# Altium schematic symbol library Symbols.SchLib: 35 symbols
Pins are listed as number, name and electrical type; pins without a type are passive.

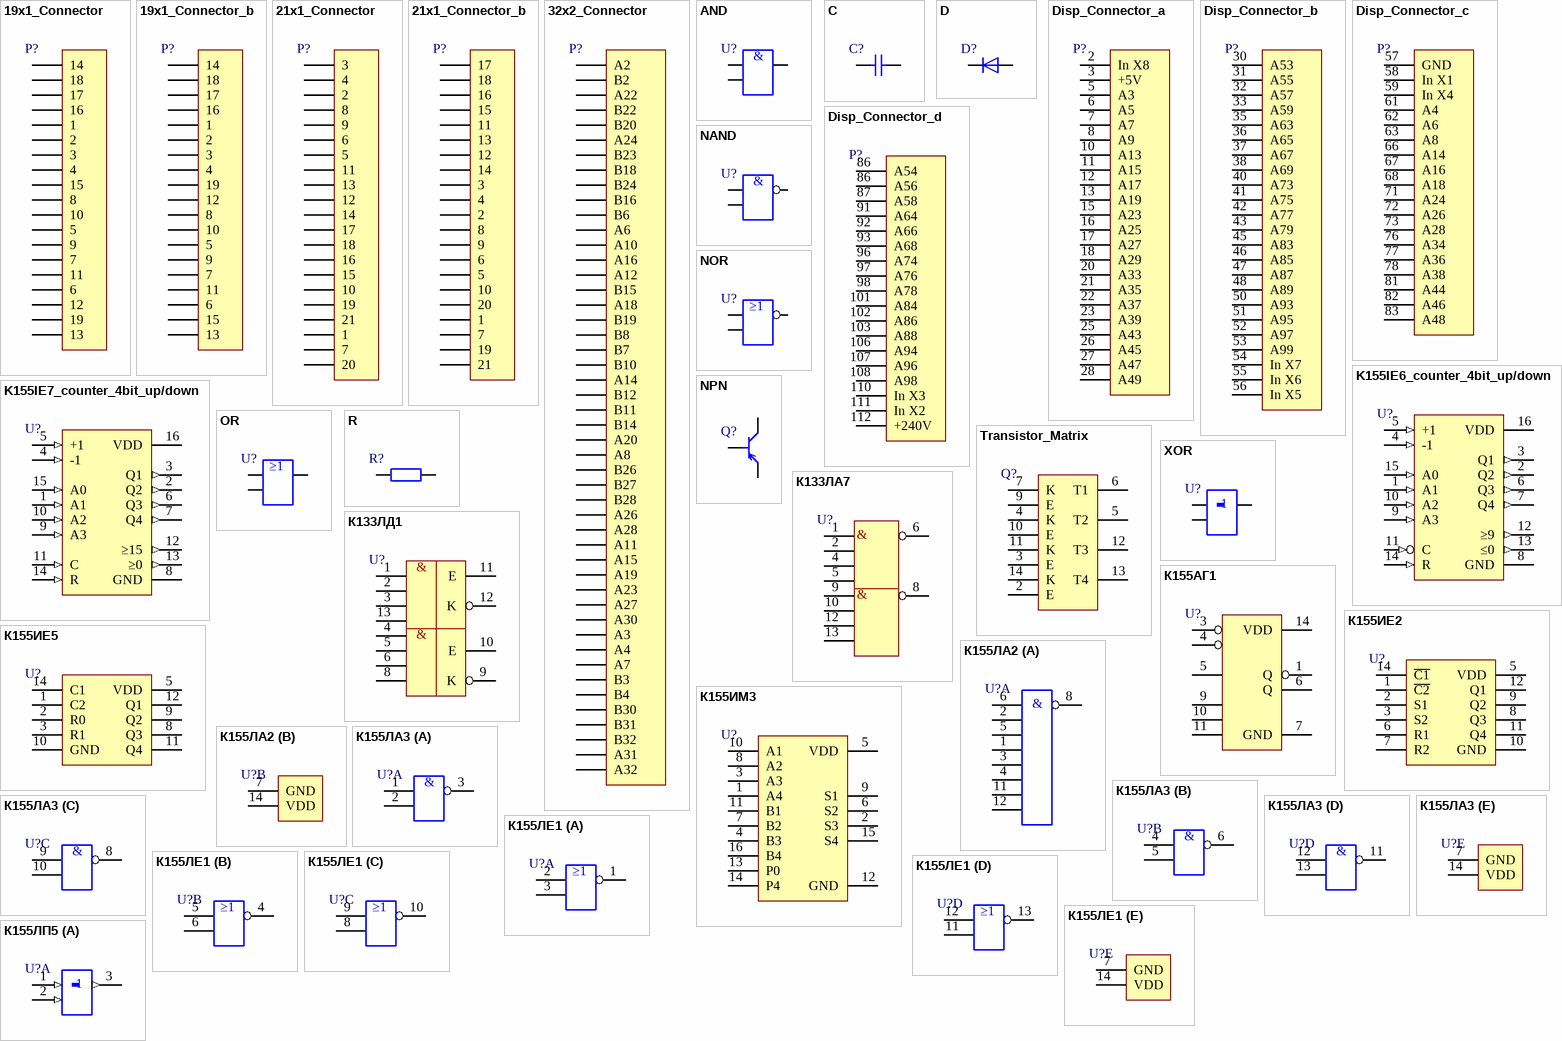
[diagram p0: symbols 19x1_Connector to К155ЛП5]

## 19x1_Connector
designator P?, comment -  (value not drawn)
pins: 1, 2, 3, 4, 5, 6, 7, 8, 9, 10, 11, 12, 13, 14, 15, 16, 17, 18, 19

## 19x1_Connector_b
designator P?, comment -  (value not drawn)
pins: 1, 2, 3, 4, 5, 6, 7, 8, 9, 10, 11, 12, 13, 14, 15, 16, 17, 18, 19

## 21x1_Connector
designator P?, comment -  (value not drawn)
pins: 1, 2, 3, 4, 5, 6, 7, 8, 9, 10, 11, 12, 13, 14, 15, 16, 17, 18, 19, 20, 21

## 21x1_Connector_b
designator P?, comment -  (value not drawn)
pins: 1, 2, 3, 4, 5, 6, 7, 8, 9, 10, 11, 12, 13, 14, 15, 16, 17, 18, 19, 20, 21

## 32x2_Connector
designator P?, comment -  (value not drawn)
pins: A2, A3, A4, A6, A7, A8, A10, A11, A12, A14, A15, A16, A18, A19, A20, A22, A23, A24, A26, A27, A28, A30, A31, A32, B2, B3, B4, B6, B7, B8, B10, B11, B12, B14, B15, B16, B18, B19, B20, B22, B23, B24, B26, B27, B28, B30, B31, B32

## AND
designator U?, comment -  (value not drawn)
pins: 1 (power), 2 (power), 3 (power)
text: &

## C
designator C?, comment -  (value not drawn)
pins: 1, 2

## D
designator D?, comment -  (value not drawn)
pins: 1, 2

## Disp_Connector_a
designator P?, comment -  (value not drawn)
pins: 2 In X8, 3 +5V, 5 A3, 6 A5, 7 A7, 8 A9, 10 A13, 11 A15, 12 A17, 13 A19, 15 A23, 16 A25, 17 A27, 18 A29, 20 A33, 21 A35, 22 A37, 23 A39, 25 A43, 26 A45, 27 A47, 28 A49

## Disp_Connector_b
designator P?, comment -  (value not drawn)
pins: 30 A53, 31 A55, 32 A57, 33 A59, 35 A63, 36 A65, 37 A67, 38 A69, 40 A73, 41 A75, 42 A77, 43 A79, 45 A83, 46 A85, 47 A87, 48 A89, 50 A93, 51 A95, 52 A97, 53 A99, 54 In X7, 55 In X6, 56 In X5

## Disp_Connector_c
designator P?, comment -  (value not drawn)
pins: 57 GND, 58 In X1, 59 In X4, 61 A4, 62 A6, 63 A8, 66 A14, 67 A16, 68 A18, 71 A24, 72 A26, 73 A28, 76 A34, 77 A36, 78 A38, 81 A44, 82 A46, 83 A48

## Disp_Connector_d
designator P?, comment -  (value not drawn)
pins: 86 A54, 86 A56, 87 A58, 91 A64, 92 A66, 93 A68, 96 A74, 97 A76, 98 A78, 101 A84, 102 A86, 103 A88, 106 A94, 107 A96, 108 A98, 110 In X3, 111 In X2, 112 +240V

## K155IE6_counter_4bit_up/down
designator U?, comment -  (value not drawn)
https://kiloom.ru/spravochnik-radiodetalej/microsxema/k155ie6-km155ie6.html
pins: 1 A1 (in), 2 Q2 (out), 3 Q1 (out), 4 -1 (in), 5 +1 (in), 6 Q3 (out), 7 Q4 (out), 8 GND (power), 9 A3 (in), 10 A2 (in), 11 C (in), 12 ≥9 (out), 13 ≤0 (out), 14 R (in), 15 A0 (in), 16 VDD (power)

## K155IE7_counter_4bit_up/down
designator U?, comment -  (value not drawn)
https://kiloom.ru/spravochnik-radiodetalej/microsxema/k155ie7-km155ie7.html
pins: 1 A1 (in), 2 Q2 (out), 3 Q1 (out), 4 -1 (in), 5 +1 (in), 6 Q3 (out), 7 Q4 (out), 8 GND (power), 9 A3 (in), 10 A2 (in), 11 C (in), 12 ≥15 (out), 13 ≥0 (out), 14 R (in), 15 A0 (in), 16 VDD (power)

## NAND
designator U?, comment -  (value not drawn)
pins: 1 (power), 2 (power), 3 (power)
text: &

## NOR
designator U?, comment -  (value not drawn)
pins: 1 (power), 2 (power), 3 (power)
text: ≥1

## NPN
designator Q?, comment -  (value not drawn)
pins: 1, 2, 3

## OR
designator U?, comment -  (value not drawn)
pins: 1 (power), 2 (power), 3 (power)
text: ≥1

## R
designator R?, comment -  (value not drawn)
pins: 1, 2

## Transistor_Matrix
designator Q?, comment -  (value not drawn)
pins: 2 E, 3 E, 4 K, 5 T2, 6 T1, 7 K, 9 E, 10 E, 11 K, 12 T3, 13 T4, 14 K

## XOR
designator U?, comment -  (value not drawn)
pins: 1 Y1, 2 A1, 3 B1

## К133ЛА7
designator U?, comment -  (value not drawn)
pins: 1 X1, 2 X2, 4 X3, 5 X4, 6 Y1, 8 Y2, 9 X5, 10 X6, 12 X7, 13 X8
text: &

## К133ЛД1
designator U?, comment -  (value not drawn)
pins: 1 X1, 2 X2, 3 X3, 4 X5, 5 X6, 6 X7, 8 X8, 9 K, 10 E, 11 E, 12 K, 13 X4
text: &

## К155АГ1
designator U?, comment -  (value not drawn)
Multi-vibrator - https://kiloom.ru/spravochnik-radiodetalej/microsxema/k155ag1.html https://www.microshemca.ru/AG1/
pins: 1 Q, 3 A1, 4 A2, 5 B, 6 Q, 7 GND (power), 9 BBH, 10 CT, 11 RTCT, 14 VDD (power)

## К155ИЕ2
designator U?, comment -  (value not drawn)
four digit decimal counter - https://kiloom.ru/spravochnik-radiodetalej/microsxema/k155ie2-km155ie2.html https://www.microshemca.ru/IE2/
pins: 1 ~{C2}, 2 S1, 3 S2, 5 VDD, 6 R1, 7 R2, 8 Q3, 9 Q2, 10 GND, 11 Q4, 12 Q1, 14 ~{C1}

## К155ИЕ5
designator U?, comment -  (value not drawn)
binary counter - https://kiloom.ru/spravochnik-radiodetalej/microsxema/k155ie5-km155ie5.html
pins: 1 C2, 2 R0, 3 R1, 5 VDD, 8 Q3, 9 Q2, 10 GND, 11 Q4, 12 Q1, 14 C1

## К155ИМ3
designator U?, comment -  (value not drawn)
4-bit full adder - https://kiloom.ru/spravochnik-radiodetalej/microsxema/k155im3-km155im3.html
pins: 1 A4, 2 S3, 3 A3, 4 B3, 5 VDD, 6 S2, 7 B2, 8 A2, 9 S1, 10 A1, 11 B1, 12 GND, 13 P0, 14 P4, 15 S4, 16 B4

## К155ЛА2
designator U?, comment -  (value not drawn)
8 input NOR - https://kiloom.ru/spravochnik-radiodetalej/microsxema/k155la2-km155la2-kb155la2-4.html
part A pins: 1 X1, 2 X2, 3 X3, 4 X4, 5 X5, 6 X6, 8 Y, 11 X7, 12 X8
part B pins: 7 GND (power), 14 VDD (power)
part A text: &

## К155ЛА3
designator U?, comment -  (value not drawn)
4x NAND - https://kiloom.ru/spravochnik-radiodetalej/microsxema/k155la3-km155la3-kb155la3-4.html
part A pins: 1 A1, 2 B1, 3 Y1
part B pins: 4 A2, 5 B2, 6 Y2
part C pins: 8 Y3, 9 A3, 10 B3
part D pins: 11 Y4, 12 A4, 13 B4
part E pins: 7 GND (power), 14 VDD (power)
part A text: &
part B text: &
part C text: &
part D text: &

## К155ЛЕ1
designator U?, comment -  (value not drawn)
4x 2 NOR - https://kiloom.ru/spravochnik-radiodetalej/microsxema/k155le1-km155le1.html
part A pins: 1 Y1, 2 A1, 3 B1
part B pins: 4 Y2, 5 A2, 6 B2
part C pins: 8 B3, 9 A3, 10 Y3
part D pins: 11 B4, 12 A4, 13 Y4
part E pins: 7 GND (power), 14 VDD (power)
part A text: ≥1
part B text: ≥1
part C text: ≥1
part D text: ≥1

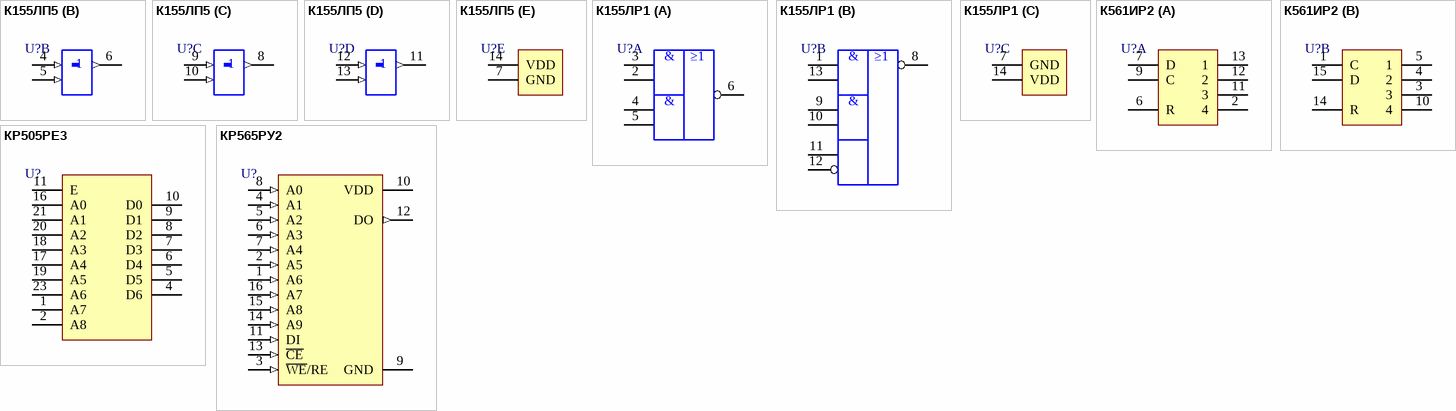
[diagram p1: symbols К155ЛП5 to КР565РУ2]

## К155ЛП5
designator U?, comment -  (value not drawn)
https://kiloom.ru/spravochnik-radiodetalej/microsxema/k155lp5-km155lp5-kb155lp5-4.html
part A pins: 1 A1 (in), 2 B1 (in), 3 Y1 (out)
part B pins: 4 A2 (in), 5 B2 (in), 6 Y2 (out)
part C pins: 8 Y3 (out), 9 A3 (in), 10 B3 (in)
part D pins: 11 Y4 (out), 12 A4 (in), 13 B4 (in)
part E pins: 7 GND (power), 14 VDD (power)

## К155ЛР1
designator U?, comment -  (value not drawn)
2x 2x AND to 1x NOR - https://kiloom.ru/spravochnik-radiodetalej/microsxema/k155lr1-km155lr1-kb155lr1-4.html
part A pins: 2 X1, 3 X2, 4 X3, 5 X4, 6 Y1
part B pins: 1 X5, 8 Y2, 9 X7, 10 X8, 11 X9, 12 X10, 13 X6
part C pins: 7 GND (power), 14 VDD (power)
part A text: &; ≥1
part B text: &; ≥1

## К561ИР2
designator U?, comment -  (value not drawn)
4-bit shift register - https://www.microshemca.ru/M.K561IR2/
part A pins: 2 4, 6 R, 7 D, 9 C, 11 3, 12 2, 13 1
part B pins: 1 C, 3, 4 2, 5 1, 10 4, 14 R, 15 D

## КР505РЕ3
designator U?, comment -  (value not drawn)
some sort of ROM
pins: 1 A7, 2 A8, 4 D6, 5 D5, 6 D4, 7 D3, 8 D2, 9 D1, 10 D0, 11 E, 16 A0, 17 A4, 18 A3, 19 A5, 20 A2, 21 A1, 23 A6

## КР565РУ2
designator U?, comment -  (value not drawn)
https://www.radiomuseum.org/tubes/tube_kr565ru2.html
pins: 1 A6 (in), 2 A5 (in), 3 ~{WE}/RE (in), 4 A1 (in), 5 A2 (in), 6 A3 (in), 7 A4 (in), 8 A0 (in), 9 GND (power), 10 VDD (power), 11 DI (in), 12 DO (out), 13 ~{CE} (in), 14 A9 (in), 15 A8 (in), 16 A7 (in)